# EAGLE library part RF600E (library rf-solutions)
RF / IR Encoder Source: RF600D.pdf
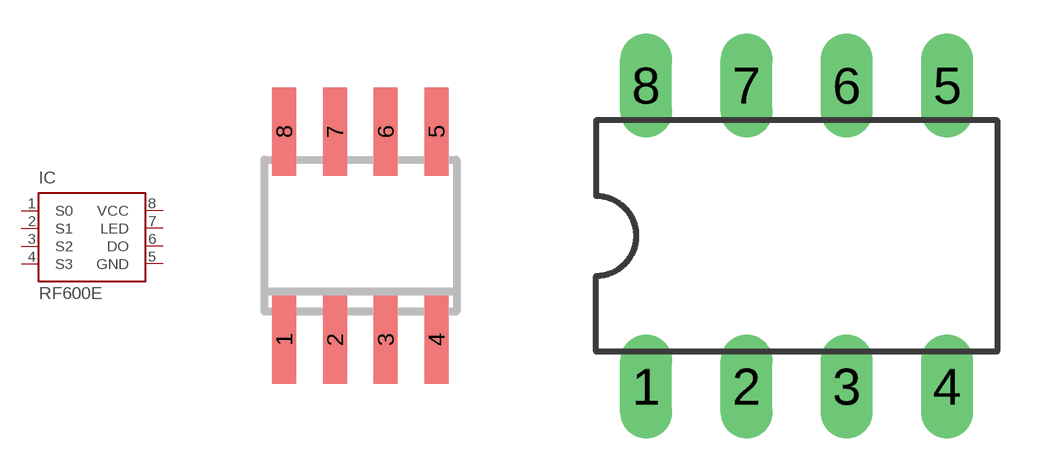
[diagram p1: symbol with the pads of SO-08; footprints SO-08, DIL08]

Designator prefix IC

## RF600E-SO  [SO-08]
1  S0  in
2  S1  in
3  S2  in
4  S3  in
5  GND  pwr
6  DO  out
7  LED  out
8  VCC  pwr

## RF600E  [DIL08]
Pads as for SO-08

## Footprint SO-08 (pad centres in mm)
Small Outline Narrow Plastic Gull Wing 150-mil body, package type SN
smd 0.6 x 2.2: 1 -1.905,-2.6; 2 -0.635,-2.6; 3 0.635,-2.6; 4 1.905,-2.6; 5 1.905,2.6; 6 0.635,2.6; 7 -0.635,2.6; 8 -1.905,2.6

## Footprint DIL08 (pad centres in mm)
Dual In Line Package
drill 0.813 long: 1 -3.81,-3.81; 2 -1.27,-3.81; 3 1.27,-3.81; 4 3.81,-3.81; 5 3.81,3.81; 6 1.27,3.81; 7 -1.27,3.81; 8 -3.81,3.81